# Altium schematic symbol library HEPIA_LSN_RB_V1.SchLib: 119 symbols
Pins are listed as number, name and electrical type; pins without a type are passive.

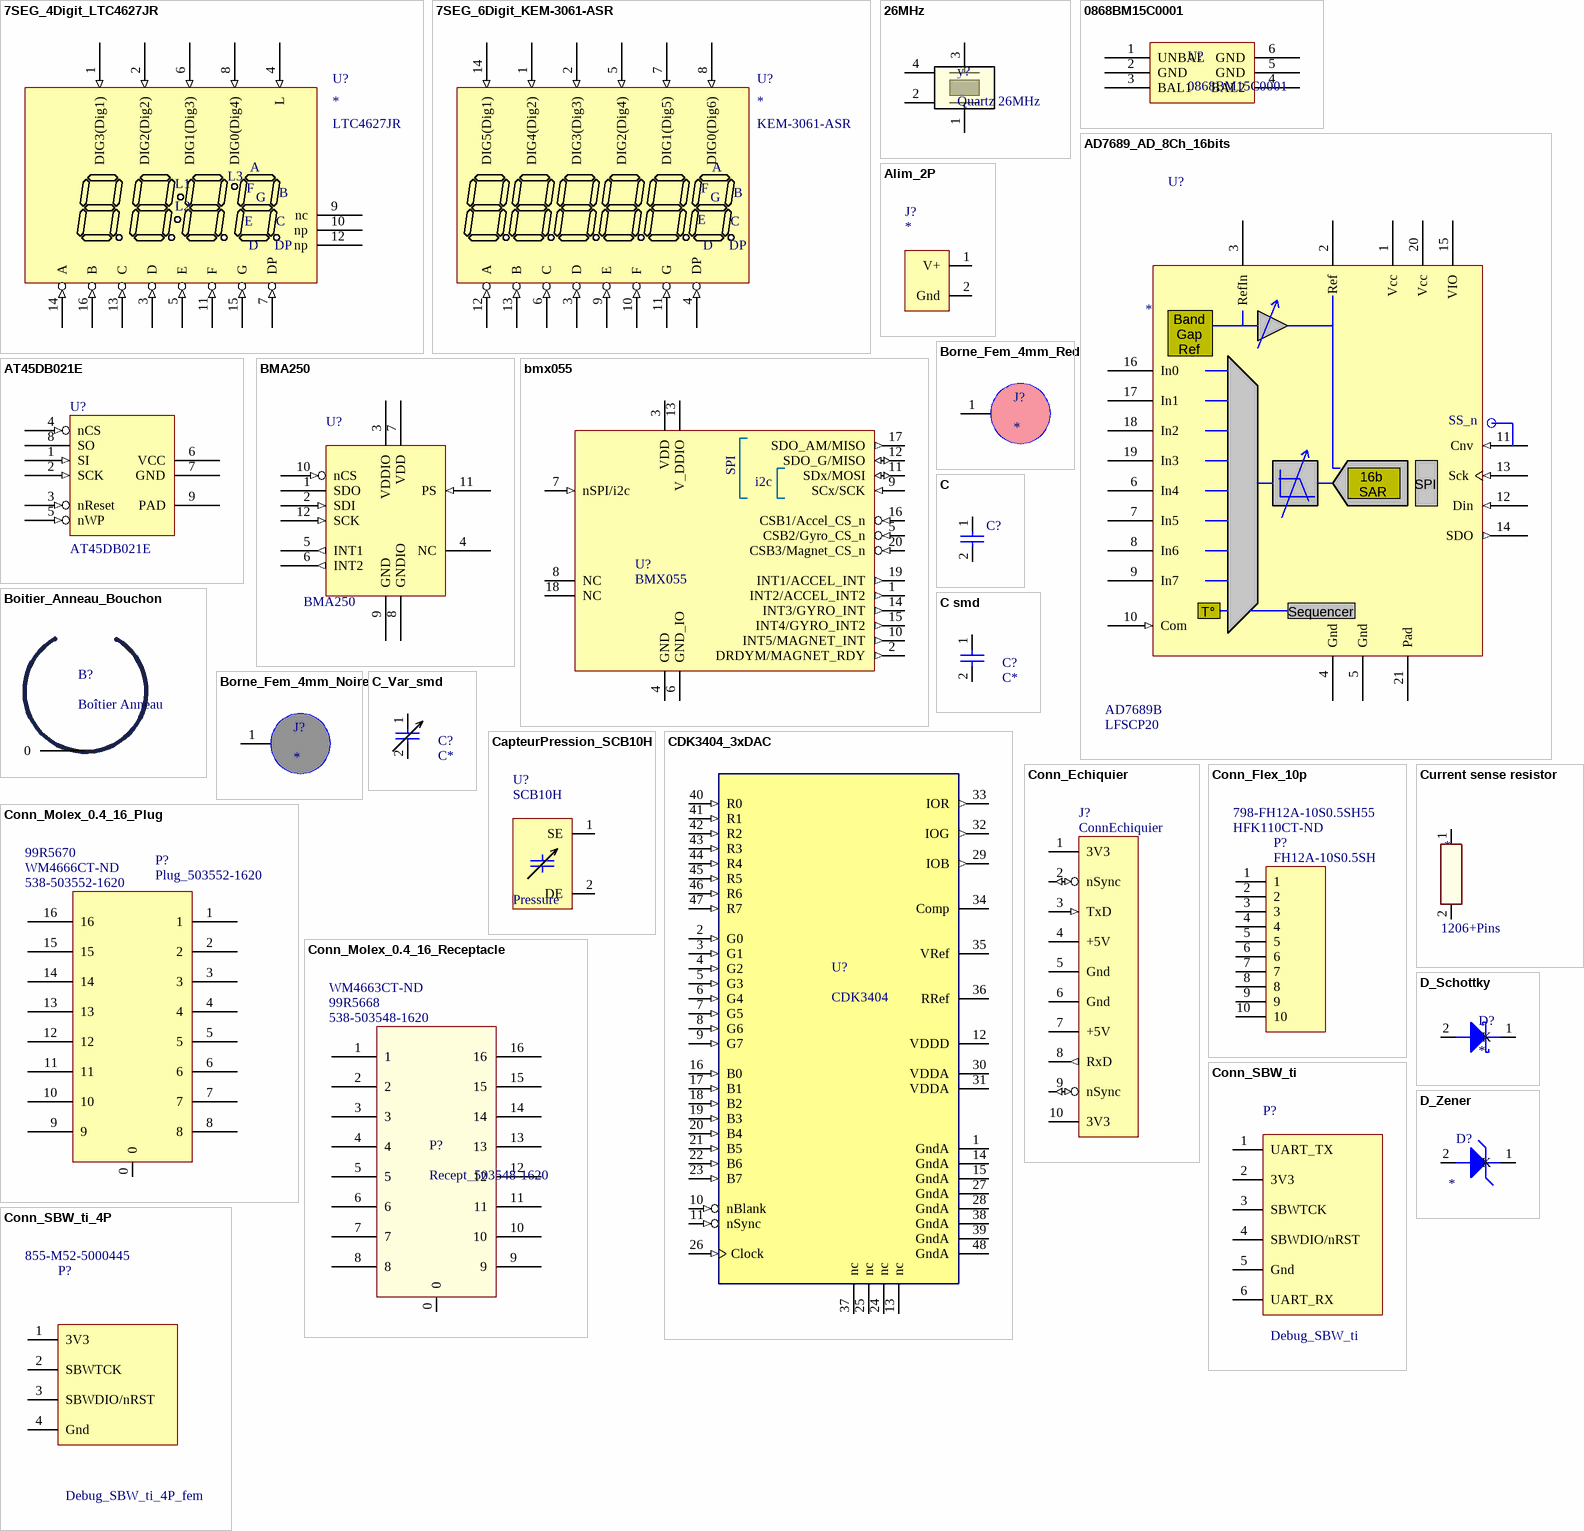
[diagram p0: symbols 7SEG_4Digit_LTC4627JR to D_Zener]

## 7SEG_4Digit_LTC4627JR
designator U?  Component: LTC4627JR
7SEG 4DIGI Annode Common
footprint 7SEG_4DIGI_10mm_LTC-4627JR (7SEgments 4 DIGI LED Display)
pins: 1 DIG3(Dig1) (in), 2 DIG2(Dig2) (in), 3 D (in), 4 L (in), 5 E (in), 6 DIG1(Dig3) (in), 7 DP (in), 8 DIG0(Dig4) (in), 9 nc, 10 np (hiz), 11 F (in), 12 np (hiz), 13 C (in), 14 A (in), 15 G (in), 16 B (in)
text: L3; L1; L2

## 7SEG_6Digit_KEM-3061-ASR
designator U?  Component: KEM-3061-ASR
footprint 7SEG_6DIGI_7.68mm
pins: 1 DIG4(Dig2) (in), 2 DIG3(Dig3) (in), 3 D (in), 4 DP (in), 5 DIG2(Dig4) (in), 6 C (in), 7 DIG1(Dig5) (in), 8 DIG0(Dig6) (in), 9 E (in), 10 F (in), 11 G (in), 12 A (in), 13 B (in), 14 DIG5(Dig1) (in)

## 26MHz
designator y?, comment Quartz 26MHz
pins: 1 IN/OUT, 2 GND (power), 3 IN/OUT, 4 GND (power)

## 0868BM15C0001
designator U?
HF ceramic solutions
pins: 1 UNBAL, 2 GND, 3 BAL1, 4 BAL2, 5 GND, 6 GND

## AD7689_AD_8Ch_16bits
designator U?  Part: AD7689B  Package: LFSCP20
AD_Conv_:8Ch_16b_SPI
footprint QFN50P400X400X100_HS-21M (QFN, 20-Leads, Body 4,00x4,00mm, Pitch 0,50mm, Thermal Pad 2,50x2,50mm, IPC Low Density)
pins: 1 Vcc, 2 Ref, 3 RefIn, 4 Gnd, 5 Gnd, 6 In4, 7 In5, 8 In6, 9 In7, 10 Com (in), 11 Cnv (in), 12 Din (in), 13 Sck (in), 14 SDO (out), 15 VIO, 16 In0, 17 In1, 18 In2, 19 In3, 20 Vcc, 21 Pad
text: Band Gap Ref /; SS_n; 16b / SAR; / SPI; T°; Sequencer

## Alim_2P
designator J?
Type: *
pins: 1 V+, 2 Gnd

## AT45DB021E
designator U?
footprint UDFN8
pins: 1 SI (in), 2 SCK (in), 3 nReset (in), 4 nCS (in), 5 nWP (in), 6 VCC (power), 7 GND (power), 8 SO, 9 PAD

## BMA250
designator U?
Acceleration Sensor SPI; Part: BMA250
footprint LGA_12
pins: 1 SDO, 2 SDI (in), 3 VDDIO (power), 4 NC, 5 INT1 (out), 6 INT2 (out), 7 VDD (power), 8 GNDIO (power), 9 GND (power), 10 nCS (in), 11 PS (in), 12 SCK (in)

## bmx055
designator U?, comment BMX055
9-axis Accel-Gyro-Magneto; Manufacturer 1: BOSCH; Manufacturer Part 1: BMX055
footprint BMX055_QFN50P450X300X100-20N (QFN, 20-Leads, Body 4.50x3.00mm, Pitch 0.50mm, IPC Medium Density)
pins: 1 INT2/ACCEL_INT2 (out), 2 DRDYM/MAGNET_RDY (out), 3 VDD (power), 4 GND (power), 5 CSB2/Gyro_CS_n (in), 6 GND_IO (power), 7 nSPI/i2c (in), 8 NC, 9 SCx/SCK (in), 10 INT5/MAGNET_INT (out), 11 SDx/MOSI (io), 12 SDO_G/MISO (io), 13 V_DDIO (power), 14 INT3/GYRO_INT (out), 15 INT4/GYRO_INT2 (out), 16 CSB1/Accel_CS_n (in), 17 SDO_AM/MISO (out), 18 NC, 19 INT1/ACCEL_INT (out), 20 CSB3/Magnet_CS_n (in)
text: SPI; i2c

## Boitier_Anneau_Bouchon
designator B?, comment Boîtier Anneau
footprint Boitier_Bouchon_di30_de40v2
pins: 0

## Borne_Fem_4mm_Noire
designator J?
Borne 4mm noire
footprint Prise_Femelle_4mm_N (Prise pour fiche 4mm noir)
pins: 1 Pad

## Borne_Fem_4mm_Red
designator J?
Borne 4mm rouge
footprint Prise_Femelle_4mm_N (Prise pour fiche 4mm noir)
footprint Prise_Femelle_4mm_R (Prise pour fiche 4mm rouge)
pins: 1 Pad

## C
designator C?
Footprint: *
footprint 0603(1608M) (Chip Resistor, 2-Leads, Body 1,6x0,8mm, IPC Low Density)
footprint 0805(2012M) (Chip Resistor, 2-Leads, Body 2,0x1,3mm, IPC Low Density)
pins: 1 "C", 2

## C smd
designator C?, comment C*
footprint 0603(1608M) (Chip Resistor, 2-Leads, Body 1,6x0,8mm, IPC Low Density)
footprint 0805(2012M) (Chip Resistor, 2-Leads, Body 2,0x1,3mm, IPC Low Density)
pins: 1 "C", 2

## C_Var_smd
designator C?, comment C*
footprint 0603(1608M) (Chip Resistor, 2-Leads, Body 1,6x0,8mm, IPC Low Density)
footprint 0805(2012M) (Chip Resistor, 2-Leads, Body 2,0x1,3mm, IPC Low Density)
footprint Murata_TZY2 (Capa Var Murata TZY2 serie)
footprint Murata_TZS2 (Capa Var Murata TZY2 serie)
pins: 1 "C", 2

## CapteurPression_SCB10H
designator U?, comment SCB10H
SCB10H_1.2bar
footprint BGA4C79P2X2_140X140X90 (BGA, 4-Leads, Body 1,40x1,40mmx0,90mm, Pitch 0,79mm)
pins: 1 SE, 2 DE
text: Pressure

## CDK3404_3xDAC
designator U?, comment CDK3404
footprint TSQFP50P900X900X120-48N (TSQFP, 48-Leads, Body 7,00x7,00mm, Pitch 0,50mm, IPC Medium Density)
pins: 1 GndA (power), 2 G0 (in), 3 G1 (in), 4 G2 (in), 5 G3 (in), 6 G4 (in), 7 G5 (in), 8 G6 (in), 9 G7 (in), 10 nBlank (in), 11 nSync (in), 12 VDDD (power), 13 nc (power), 14 GndA (power), 15 GndA (power), 16 B0 (in), 17 B1 (in), 18 B2 (in), 19 B3 (in), 20 B4 (in), 21 B5 (in), 22 B6 (in), 23 B7 (in), 24 nc (power), 25 nc (power), 26 Clock (in), 27 GndA (power), 28 GndA (power), 29 IOB (out), 30 VDDA (power), 31 VDDA (power), 32 IOG (out), 33 IOR (out), 34 Comp, 35 VRef, 36 RRef, 37 nc (power), 38 GndA (power), 39 GndA (power), 40 R0 (in), 41 R1 (in), 42 R2 (in), 43 R3 (in), 44 R4 (in), 45 R5 (in), 46 R6 (in), 47 R7 (in), 48 GndA (power)

## Conn_Echiquier
designator J?, comment ConnEchiquier
Connecteur Lien modules NESW; Value: ConnEchiquier
footprint Conn_Echiquier_ (Connecteur special echiquier 8P, 1.27mm, top-bot)
pins: 1 3V3, 2 nSync (io), 3 TxD (in), 4 +5V, 5 Gnd, 6 Gnd, 7 +5V, 8 RxD (out), 9 nSync (io), 10 3V3

## Conn_Flex_10p
designator P?, comment FH12A-10S0.5SH  Supplier Part Number 1: HFK110CT-ND  Supplier Part Number 2: 798-FH12A-10S0.5SH55
Supplier 1: Digi-Key; Supplier 2: Mouser
footprint Hirose_FH12A-10S-0.5SH(55) (Connector for Flex 1 side 10Pos 0.5mm)
footprint Hirose_FH12A-10S-0.5SH(55)-Flex (Connector for Flex 1 side 10Pos 0.5mm)
pins: 1, 2, 3, 4, 5, 6, 7, 8, 9, 10

## Conn_Molex_0.4_16_Plug
designator P?, comment Plug_503552-1620  Supplier Part Number 1: 538-503552-1620  Supplier Part Number 2: WM4666CT-ND  Supplier Part Number 3: 99R5670
Value: Plug_503552-1620; Supplier 1: Mouser; Supplier 2: Digi-Key; Supplier 3: Newark
footprint Molex_Plug_0.4_16P (Molex_SlimStack,0.4mmPitch,16Pins,2Rows,Plug,503552-1620)
pins: 0, 1, 2, 3, 4, 5, 6, 7, 8, 9, 10, 11, 12, 13, 14, 15, 16

## Conn_Molex_0.4_16_Receptacle
designator P?, comment Recept_503548-1620  Supplier Part Number 1: 538-503548-1620  Supplier Part Number 2: 99R5668  Supplier Part Number 3: WM4663CT-ND
Value: Recept_503548-1620; Supplier 1: Mouser; Supplier 2: Newark; Supplier 3: Digi-Key
footprint Molex_Recept_0.4_16P (Molex_SlimStack,0.4mmPitch,16Pins,2Rows,Recept,503548-1620)
pins: 0, 1, 2, 3, 4, 5, 6, 7, 8, 9, 10, 11, 12, 13, 14, 15, 16

## Conn_SBW_ti
designator P?, comment Debug_SBW_ti
Connecteur Debug SBW + UART, ti
footprint Conn_SBW_6pos_1.27mm
pins: 1 UART_TX "Emitter", 2 3V3 "Emitter", 3 SBWTCK "Emitter", 4 SBWDIO/nRST "Emitter", 5 Gnd "Emitter", 6 UART_RX "Emitter"

## Conn_SBW_ti_4P
designator P?, comment Debug_SBW_ti_4P_fem  Supplier Part Number 1: 855-M52-5000445
Connecteur Debug SBW ti; Supplier 1: Mouser
footprint Conn_SBW_4pos_1.27mm
pins: 1 3V3 "Emitter", 2 SBWTCK "Emitter", 3 SBWDIO/nRST "Emitter", 4 Gnd "Emitter"

## Current sense resistor
designator RM?  Package: 1206+Pins  (hidden comment: *)
Current _sense_resistor; Value: *
footprint SENSERESC3216X08M (Rsense-Chip Resistor, 2-Leads, Body 3.2x1.6mm, IPC Low Density)
footprint SENSERESC3216X08M - ROTATED (Rsense-Chip Resistor, 2-Leads, Body 3.2x1.6mm, IPC Low Density)
pins: 1, 2

## D_Schottky
designator D?
Diode_Schottky; Value: *
pins: 1 K, 2 A

## D_Zener
designator D?
Diode_Zener; Value: *
footprint 1608[0603] pol (Chip Capacitor, Body 1.6x0.8mm, IPC High Density)
pins: 1 K, 2 A

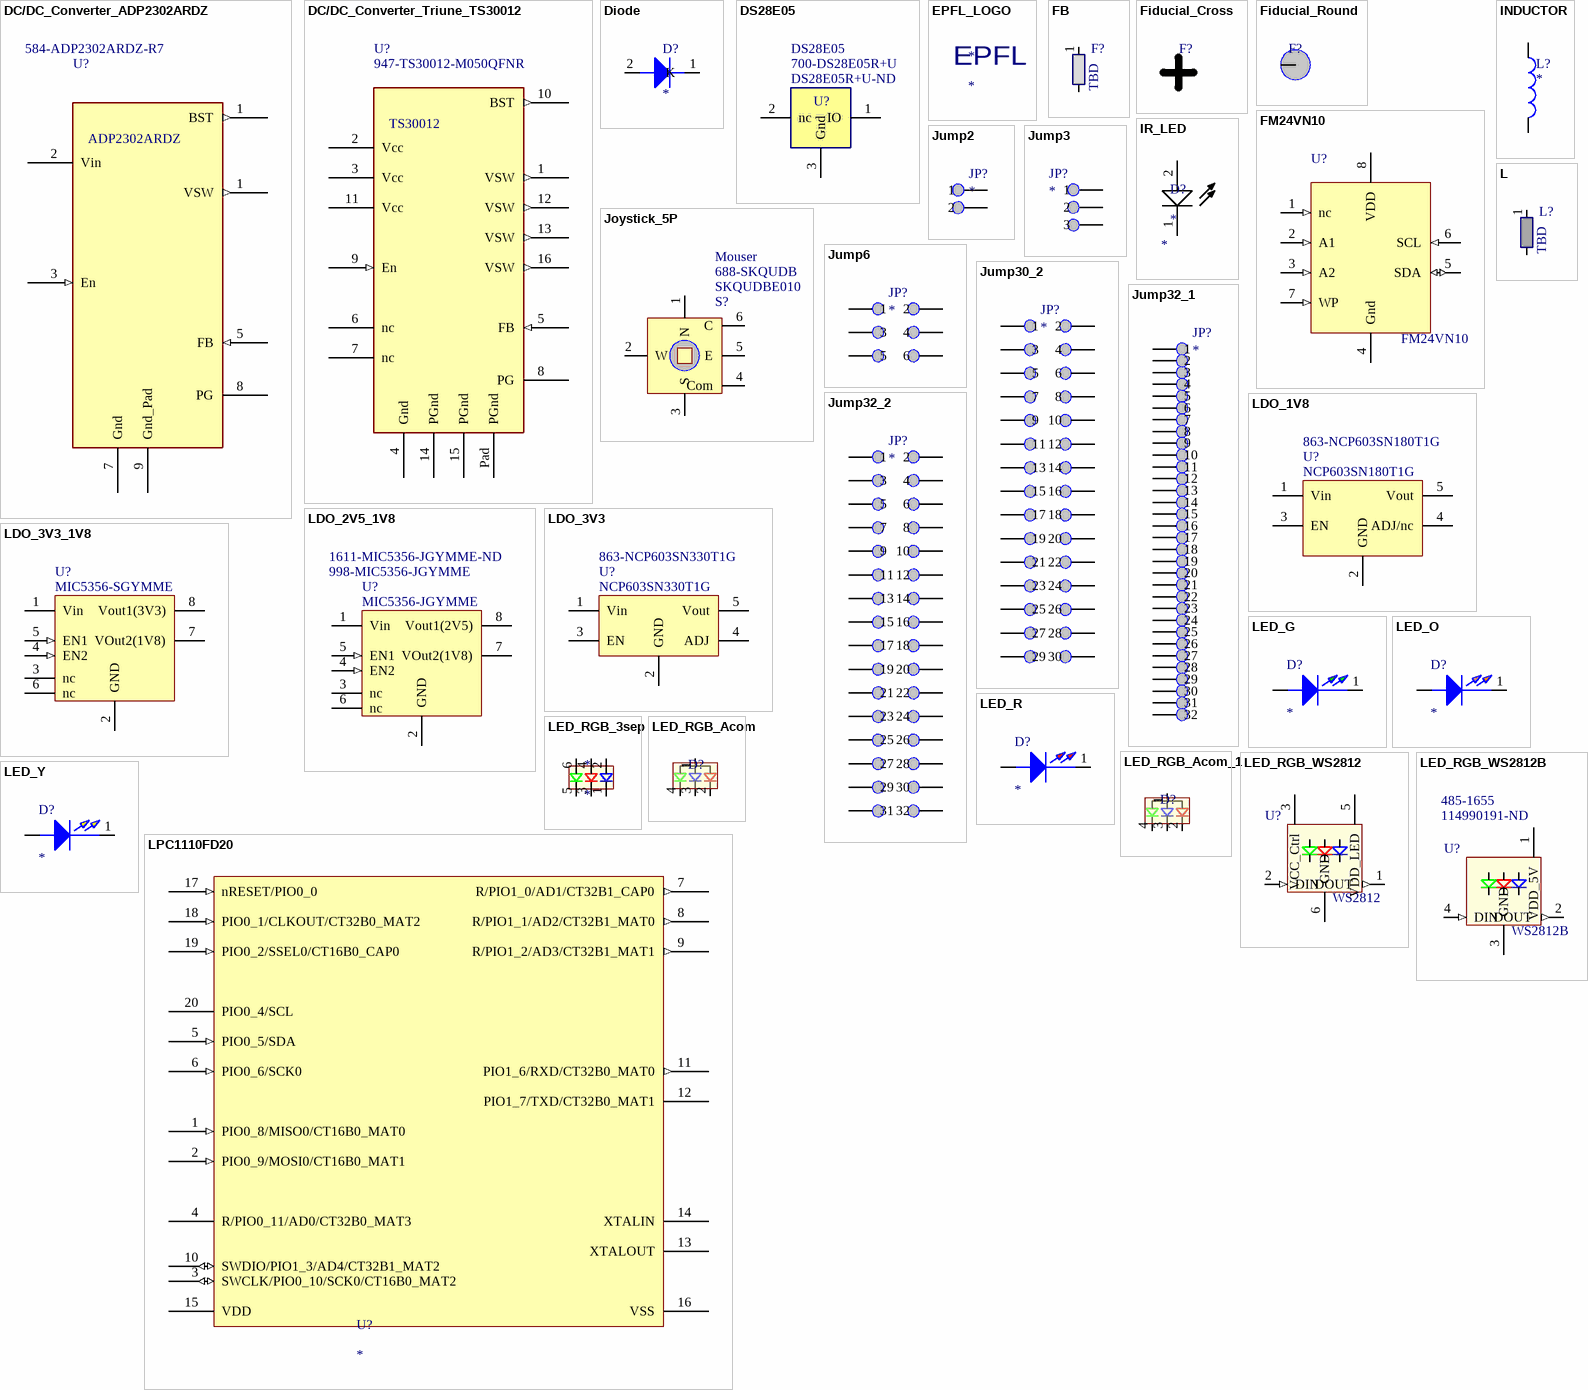
[diagram p1: symbols DC/DC_Converter_ADP2302ARDZ to LPC1110FD20]

## DC/DC_Converter_ADP2302ARDZ
designator U?, comment ADP2302ARDZ  Manufacturer: Analog Devices  Supplier Part Number 2: 584-ADP2302ARDZ-R7
DC/DC Converter Bulk; Supplier 1: Mouser; Part: ADP2302ARDZ; Supplier 2: Mouser
footprint SOIC-8-EP (8 Lead Plastic Small Outline (SN) - Narrow 150 mil (SOIC)_ExposedPad)
pins: 1 VSW (out), 1 BST (out), 2 Vin (power), 3 En (in), 5 FB (in), 7 Gnd (power), 8 PG (oc), 9 Gnd_Pad (power)

## DC/DC_Converter_Triune_TS30012
designator U?, comment TS30012  Manufacturer: Triune  Supplier Part Number 1: 947-TS30012-M050QFNR
DC/DC Converter Bulk; Supplier 1: Mouser; Part: TS30012
footprint QFN50P300X300X100_HS-17N (QFN, 16-Leads, Body 3,00x3,00mm, Pitch 0,50mm, Thermal Pad 1,68x1,68mm, IPC Medium Density)
pins: 1 VSW (out), 2 Vcc (power), 3 Vcc (power), 4 Gnd (power), 5 FB (in), 6 nc, 7 nc, 8 PG (oc), 9 En (in), 10 BST (out), 11 Vcc (power), 12 VSW (out), 13 VSW (out), 14 PGnd (power), 15 PGnd (power), 16 VSW (out), Pad PGnd (power)

## Diode
designator D?
Diode; Value: *
pins: 1 K, 2 A

## DS28E05
designator U?  Supplier Part Number 1: DS28E05R+U-ND  Supplier Part Number 2: 700-DS28E05R+U
UniqueNumber&Mem; Supplier 1: Digi-Key; Supplier 2: Mouser
footprint SOT95P237X110-3N (SOT23, 3-Leads, Body 2.90x2.37mm, Pitch 0.95mm, IPC Medium Density)
pins: 1 IO, 2 nc (power), 3 Gnd (power)

## EPFL_LOGO
designator *
footprint EPFL_Logo
text: EPFL

## FB
designator F?, comment TBD
FerriteBead; Value: TBD; Footprint: *
footprint 0603(1608M) (Chip Resistor, 2-Leads, Body 1,6x0,8mm, IPC Low Density)
footprint 0805(2012M) (Chip Resistor, 2-Leads, Body 2,0x1,3mm, IPC Low Density)
footprint 1206(3216M) (Chip Resistor, 2-Leads, Body 3,2x1,6mm, IPC Low Density)
footprint 1210(3225M) (Chip Resistor, 2-Leads, Body 3,2x2,6mm, IPC Low Density)
footprint 2010(5025M) (Chip Resistor, 2-Leads, Body 5,1x2,5mm, IPC Low Density)
footprint 2512(6332M) (Chip Resistor, 2-Leads, Body 6,4x3,2mm, IPC Low Density)
footprint 0402(1005M) (Chip Resistor, 2-Leads, Body 1,0x0,5mm, IPC Low Density)
footprint RESC1005X04L-0402 (Chip Resistor, 2-Leads, Body 1.00x0.50mm, IPC High Density)
pins: 1, 2

## Fiducial_Cross
designator F?, comment Cross  (value not drawn)
Value: Cross
footprint Fiducial_Cross_2mm (Fiducial_with_Paste)
pins: 1

## Fiducial_Round
designator F?  (value not drawn)
Value: *
footprint Fiducial_round_2mm (Fiducial 2mm round NOpastSolder)
pins: 1

## FM24VN10
designator U?
I2C_Memory_1Mbits; Value: FM24VN10
footprint SOIC-8-SN (8 Lead Plastic Small Outline (SN) - Narrow 150 mil (SOIC))
pins: 1 nc (in), 2 A1 (in), 3 A2 (in), 4 Gnd (power), 5 SDA (io), 6 SCL (in), 7 WP (in), 8 VDD (power)

## INDUCTOR
designator L?
pins: 1, 2

## IR_LED
designator D?
Value: *
pins: 1 C "Emitter", 2 A "Emitter"

## Joystick_5P
designator S?, comment SKQUDBE010  Supplier 1: Mouser  Supplier Part Number 1: 688-SKQUDB
SKQUDBE010-ALPS
footprint SKQUDBE010 (Joystick)
pins: 1 N, 2 W, 3 S, 4 Com, 5 E, 6 C

## Jump2
designator JP?
footprint Jump2
pins: 1, 2

## Jump3
designator JP?
footprint Jump3
pins: 1, 2, 3

## Jump6
designator JP?
footprint Jump6
pins: 1, 2, 3, 4, 5, 6

## Jump30_2
designator JP?
footprint Jump30
pins: 1, 2, 3, 4, 5, 6, 7, 8, 9, 10, 11, 12, 13, 14, 15, 16, 17, 18, 19, 20, 21, 22, 23, 24, 25, 26, 27, 28, 29, 30

## Jump32_1
designator JP?
footprint Jump32
pins: 1, 2, 3, 4, 5, 6, 7, 8, 9, 10, 11, 12, 13, 14, 15, 16, 17, 18, 19, 20, 21, 22, 23, 24, 25, 26, 27, 28, 29, 30, 31, 32

## Jump32_2
designator JP?
footprint Jump32
pins: 1, 2, 3, 4, 5, 6, 7, 8, 9, 10, 11, 12, 13, 14, 15, 16, 17, 18, 19, 20, 21, 22, 23, 24, 25, 26, 27, 28, 29, 30, 31, 32

## L
designator L?, comment TBD
Inductor; Value: TBD; Footprint: *
footprint 0603(1608M) (Chip Resistor, 2-Leads, Body 1,6x0,8mm, IPC Low Density)
footprint 0805(2012M) (Chip Resistor, 2-Leads, Body 2,0x1,3mm, IPC Low Density)
footprint 1206(3216M) (Chip Resistor, 2-Leads, Body 3,2x1,6mm, IPC Low Density)
footprint 1210(3225M) (Chip Resistor, 2-Leads, Body 3,2x2,6mm, IPC Low Density)
footprint 2010(5025M) (Chip Resistor, 2-Leads, Body 5,1x2,5mm, IPC Low Density)
footprint 2512(6332M) (Chip Resistor, 2-Leads, Body 6,4x3,2mm, IPC Low Density)
footprint 0402(1005M) (Chip Resistor, 2-Leads, Body 1,0x0,5mm, IPC Low Density)
footprint RESC1005X04L-0402 (Chip Resistor, 2-Leads, Body 1.00x0.50mm, IPC High Density)
pins: 1, 2

## LDO_1V8
designator U?, comment NCP603SN180T1G  Supplier Part Number 1: 863-NCP603SN180T1G
LDO_1V8; Value: NCP603SN180T1G; Supplier 1: Mouser
footprint LDO_3V3(TSOP5) (Footprint not found)
pins: 1 Vin (power), 2 GND, 3 EN, 4 ADJ/nc, 5 Vout (power)

## LDO_2V5_1V8
designator U?, comment MIC5356-JGYMME  Supplier Part Number 1: 998-MIC5356-JGYMME  Supplier Part Number 2: 1611-MIC5356-JGYMME-ND
Value: MIC5356-JGYMME; Supplier 1: Mouser; Supplier 2: Digi-Key
footprint TSOP65P490X100_HS-9N (TSOP, 8-Leads, Body 3.00x3.00mm, Pitch 0.65mm, Thermal Pad 2.36x1.73mm, IPC Medium Density)
pins: 1 Vin (power), 2 GND, 3 nc, 4 EN2 (in), 5 EN1 (in), 6 nc, 7 VOut2(1V8) (power), 8 Vout1(2V5) (power)

## LDO_3V3
designator U?, comment NCP603SN330T1G  Supplier Part Number 1: 863-NCP603SN330T1G
Value: NCP603SN330T1G; Supplier 1: Mouser
footprint LDO_3V3(TSOP5) (LDO 3V3)
pins: 1 Vin, 2 GND, 3 EN, 4 ADJ, 5 Vout

## LDO_3V3_1V8
designator U?, comment MIC5356-SGYMME
Value: MIC5356-SGYMME
footprint TSOP65P490X100_HS-9N (TSOP, 8-Leads, Body 3.00x3.00mm, Pitch 0.65mm, Thermal Pad 2.36x1.73mm, IPC Medium Density)
pins: 1 Vin (power), 2 GND, 3 nc, 4 EN2 (in), 5 EN1 (in), 6 nc, 7 VOut2(1V8) (power), 8 Vout1(3V3) (power)

## LED_G
designator D?
footprint D_0603_LED_G
pins: 1 CATHODE, 2 ANODE

## LED_O
designator D?
footprint D_0603_LED_O
pins: 1 CATHODE, 2 ANODE

## LED_R
designator D?
footprint D_0603_LED_R
pins: 1 CATHODE, 2 ANODE

## LED_RGB_3sep
designator *
pins: 1 KB, 2 AB, 3 KR, 4 AR, 5 KV, 6 AG

## LED_RGB_Acom
designator D?, comment SML-LX0404SIUPGUSB  (value not drawn)
LED RGB; Manufacturer: Lumex Opto/Components Inc; Color: Red, Green, Blue (RGB); Millicandela Rating: 30mcd Red, 40mcd Green, 20mcd Blue; Voltage - Forward (Vf) Typ: 1.95V Red, 2.85V Green, 2.73V Blue; Current - Test: 2mA; Wavelength - Peak: 632nm, 518nm, 465nm; Viewing Angle: 120°; Lens Type: Clear; Lens Style/Size: Square with Flat Top, 1mm; Lens Colour/Style: Water Clear; LED Size: 1 mm x 1 mm; Luminous Intensity: 30 mcd; Peak Wavelength: 632 nm; Product Status: New Technology; Supplier 1: Digi-Key; RoHS: RoHS Compliant; Wavelength - Dominant: -; Package / Case: 0404 (1010 Metric); Size / Dimension: 1.00mm L x 1.00mm W; Height: 0.25mm; Mounting Type: Surface Mount; Packaging: Tape & Reel (TR); Luminous Flux @ Current - Test: -; ComponentLink1URL: http://media.digikey.com/pdf/Data%20Sheets/Lumex%20PDFs/SML-LX0404SIUPGUSB.pdf; ComponentLink1Description: http://media.digikey.com/pdf/Data%20Sheets/Lumex%20PDFs/SML-LX0404SIUPGUSB.pdf; Supplier 2: Mouser; Illumination Colour: RGB; Package/Case: 0404; Lens Dimensions: 1 mm x 1mm x 0.25 mm; Maximum Operating Temperature: + 85 C; Minimum Operating Temperature: - 40 C; Product Category: Surface Mount LED Lamps; RoHS - Mouser: Y; Minimum Order Quantity: 1; Reeling: True; ComponentLink2URL: http://www.mouser.com/catalog/specsheets/SML-LX0404SIUPGUSB.pdf; ComponentLink2Description: http://www.mouser.com/catalog/specsheets/SML-LX0404SIUPGUSB.pdf; Supplier Part Number 1: 67-2125-2-ND; Manufacturer Part Number: SML-LX0404SIUPGUSB; Category: Optoelectronics; Stock 1: 10000; Pricing 1: 2000=0.354, 6000=0.333, 10000=0.326, 50000=0.319 (USD); Supplier Part Number 2: 696-LX0404SIUPGUSB; Stock 2: 738; Pricing 2: 1=0.770, 10=0.696, 100=0.640, 200=0.623, 500=0.576, 1000=0.507, 2000=0.491, 5000=0.418 (CHF)
footprint 4P_LED_RGB_1mmx1mm
pins: 1 AC, 2 KR, 3 KB, 4 KV

## LED_RGB_Acom_1
designator D?, comment SML-LX0404SIUPGUSB  (value not drawn)
LED RGB; Manufacturer: Lumex Opto/Components Inc; Color: Red, Green, Blue (RGB); Millicandela Rating: 30mcd Red, 40mcd Green, 20mcd Blue; Voltage - Forward (Vf) Typ: 1.95V Red, 2.85V Green, 2.73V Blue; Current - Test: 2mA; Wavelength - Peak: 632nm, 518nm, 465nm; Viewing Angle: 120°; Lens Type: Clear; Lens Style/Size: Square with Flat Top, 1mm; Lens Colour/Style: Water Clear; LED Size: 1 mm x 1 mm; Luminous Intensity: 30 mcd; Peak Wavelength: 632 nm; Product Status: New Technology; Supplier 1: Digi-Key; RoHS: RoHS Compliant; Wavelength - Dominant: -; Package / Case: 0404 (1010 Metric); Size / Dimension: 1.00mm L x 1.00mm W; Height: 0.25mm; Mounting Type: Surface Mount; Packaging: Tape & Reel (TR); Luminous Flux @ Current - Test: -; ComponentLink1URL: http://media.digikey.com/pdf/Data%20Sheets/Lumex%20PDFs/SML-LX0404SIUPGUSB.pdf; ComponentLink1Description: http://media.digikey.com/pdf/Data%20Sheets/Lumex%20PDFs/SML-LX0404SIUPGUSB.pdf; Supplier 2: Mouser; Illumination Colour: RGB; Package/Case: 0404; Lens Dimensions: 1 mm x 1mm x 0.25 mm; Maximum Operating Temperature: + 85 C; Minimum Operating Temperature: - 40 C; Product Category: Surface Mount LED Lamps; RoHS - Mouser: Y; Minimum Order Quantity: 1; Reeling: True; ComponentLink2URL: http://www.mouser.com/catalog/specsheets/SML-LX0404SIUPGUSB.pdf; ComponentLink2Description: http://www.mouser.com/catalog/specsheets/SML-LX0404SIUPGUSB.pdf; Supplier Part Number 1: 67-2125-2-ND; Manufacturer Part Number: SML-LX0404SIUPGUSB; Category: Optoelectronics; Stock 1: 10000; Pricing 1: 2000=0.354, 6000=0.333, 10000=0.326, 50000=0.319 (USD); Supplier Part Number 2: 696-LX0404SIUPGUSB; Stock 2: 738; Pricing 2: 1=0.770, 10=0.696, 100=0.640, 200=0.623, 500=0.576, 1000=0.507, 2000=0.491, 5000=0.418 (CHF)
footprint 4P_LED_RGB_1mmx1mm
pins: 1 AC, 2 KR, 3 KB, 4 KV

## LED_RGB_WS2812
designator U?, comment WS2812
WS2812 RGB 5050 LED; Supplier 1: alibaba; Supplier Part Number 1: http://fr.aliexpress.com/item/WS2812-100pcs-lot-5050-SMD-RGB-LED-with-built-in-WS2811-IC-Free-shipping/1594027589.html?recommendVersion=1
footprint 5050_6 (LED RGB, 6pin, WS2812 integrated PWM chip)
pins: 1 DOUT (out), 2 DIN (in), 3 VCC_Ctrl (power) "Power supply control circuit", 5 VDD_LED (power) "Power supply LED", 6 GND (power)

## LED_RGB_WS2812B
designator U?, comment WS2812B  Supplier Part Number 2: 114990191-ND  Supplier Part Number 3: 485-1655
WS2812B RGB 5050 LED; Supplier 1: alibaba; Value: WS2812B; Supplier 2: Digi-Key; Supplier 3: Mouser
footprint 5050_4 (LED RGB, 4pin, WS2812B integrated PWM chip)
pins: 1 VDD_5V (power) "Power supply LED", 2 DOUT (out), 3 GND (power), 4 DIN (in)

## LED_Y
designator D?
footprint D_0603_LED_Y
pins: 1 CATHODE, 2 ANODE

## LPC1110FD20
designator U?
footprint SOP127P1030X265-20N (SOP, 20-Leads, Body 12.80x7.50mm, Pitch 1.27mm, IPC Medium Density)
pins: 1 PIO0_8/MISO0/CT16B0_MAT0 (in), 2 PIO0_9/MOSI0/CT16B0_MAT1 (in), 3 SWCLK/PIO0_10/SCK0/CT16B0_MAT2 (io), 4 R/PIO0_11/AD0/CT32B0_MAT3, 5 PIO0_5/SDA (in), 6 PIO0_6/SCK0 (in), 7 R/PIO1_0/AD1/CT32B1_CAP0 (out), 8 R/PIO1_1/AD2/CT32B1_MAT0 (out), 9 R/PIO1_2/AD3/CT32B1_MAT1 (out), 10 SWDIO/PIO1_3/AD4/CT32B1_MAT2 (io), 11 PIO1_6/RXD/CT32B0_MAT0 (out), 12 PIO1_7/TXD/CT32B0_MAT1, 13 XTALOUT, 14 XTALIN, 15 VDD (power), 16 VSS (power), 17 nRESET/PIO0_0 (in), 18 PIO0_1/CLKOUT/CT32B0_MAT2 (in), 19 PIO0_2/SSEL0/CT16B0_CAP0 (in), 20 PIO0_4/SCL

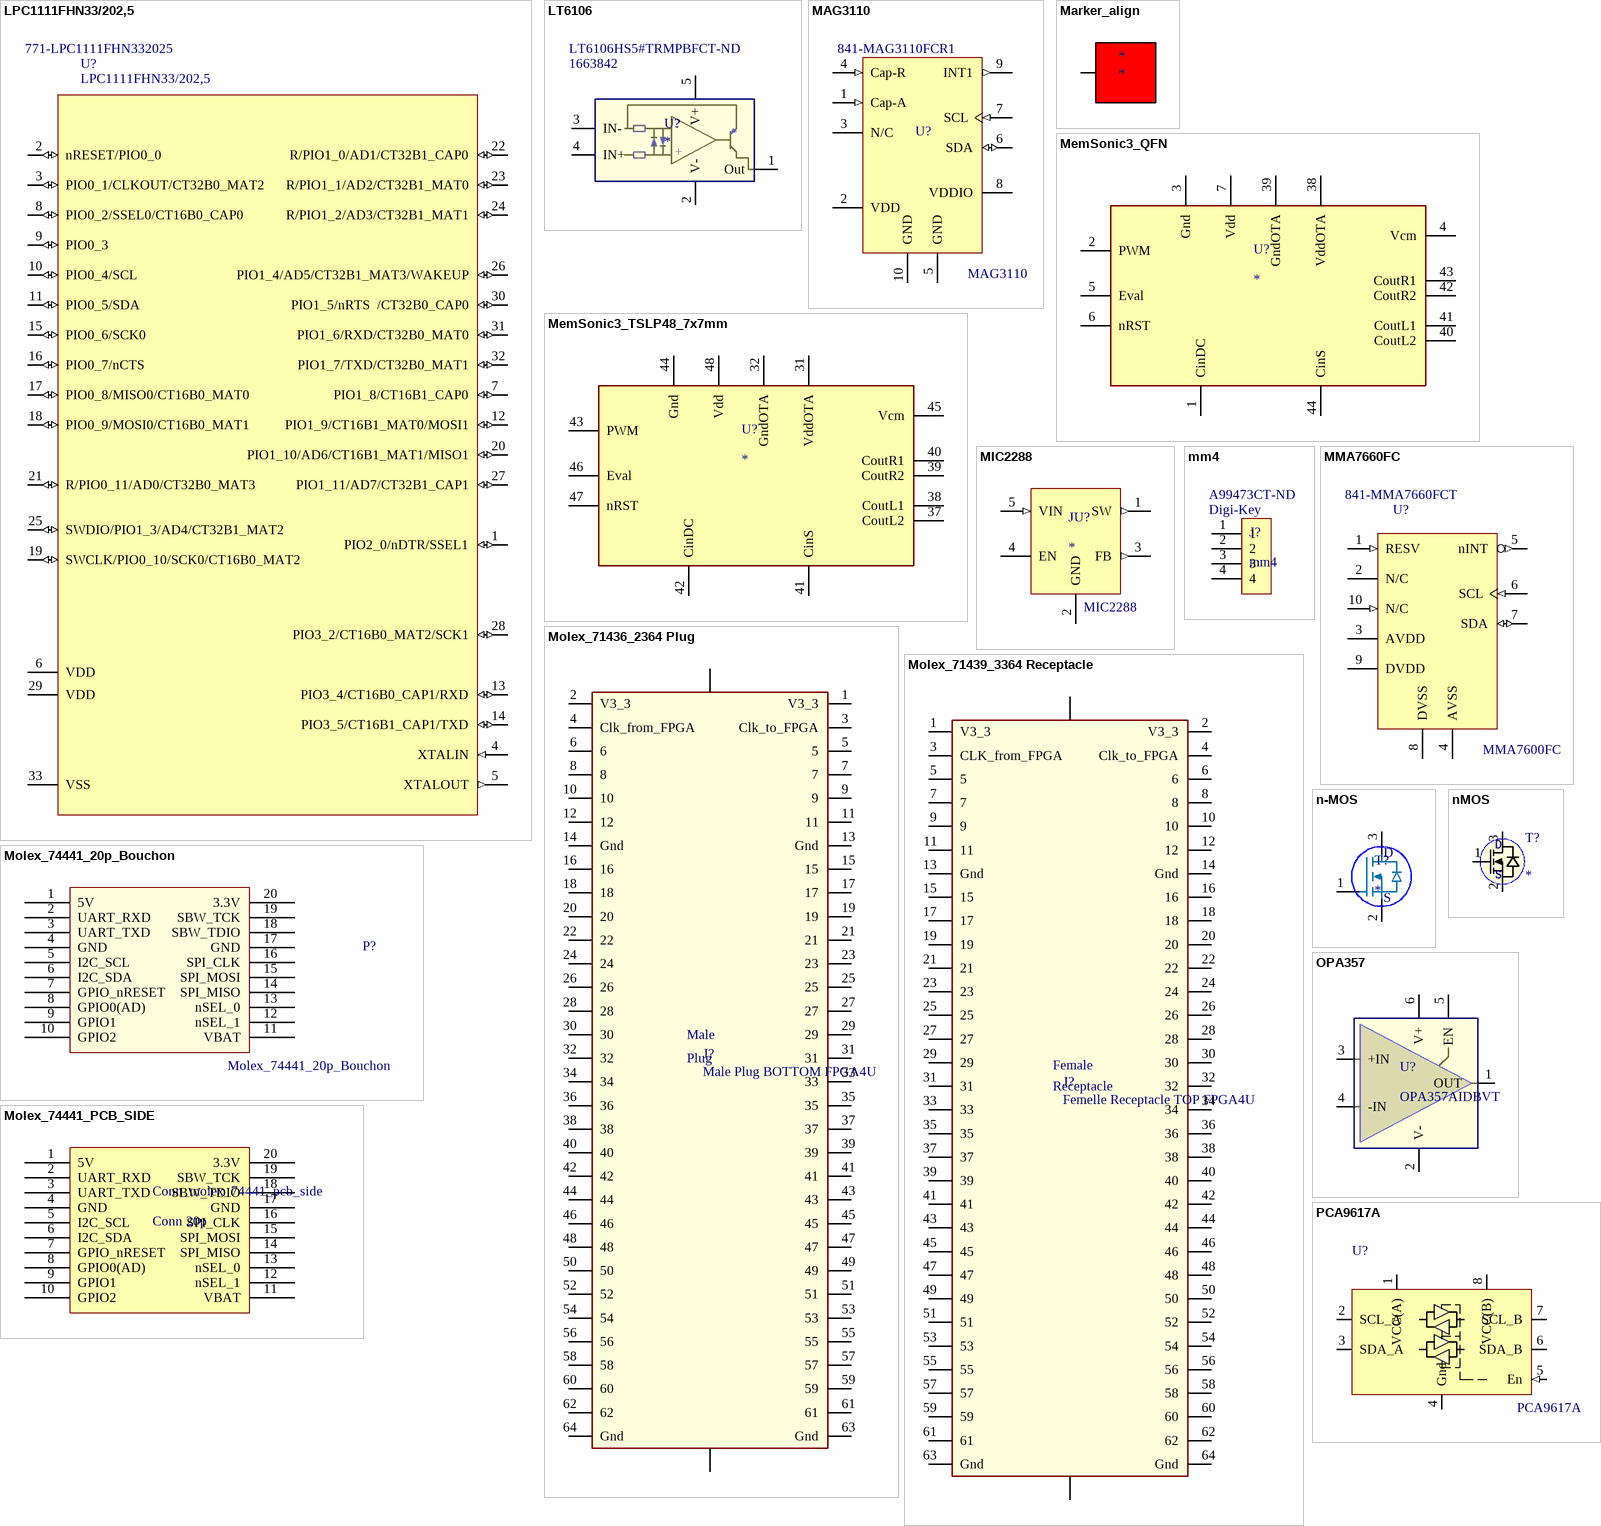
[diagram p2: symbols LPC1111FHN33/202,5 to PCA9617A]

## LPC1111FHN33/202,5
designator U?  Supplier Part Number 1: 771-LPC1111FHN332025
uC ARM Cortex M0; Value: LPC1111FHN33/202,5; Footprint: HVQFN33-0.65p; Supplier 1: Mouser
footprint QFN65P700X700X100_HS-33N (QFN, 32-Leads, Body 7,00x7,00mm, Pitch 0,65mm, Thermal Pad 4,70x4,70mm, IPC Medium Density)
pins: 1 PIO2_0/nDTR/SSEL1 (io), 2 nRESET/PIO0_0 (io), 3 PIO0_1/CLKOUT/CT32B0_MAT2 (io), 4 XTALIN (in), 5 XTALOUT (out), 6 VDD (power), 7 PIO1_8/CT16B1_CAP0 (io), 8 PIO0_2/SSEL0/CT16B0_CAP0 (io), 9 PIO0_3  (io), 10 PIO0_4/SCL (io), 11 PIO0_5/SDA (io), 12 PIO1_9/CT16B1_MAT0/MOSI1 (io), 13 PIO3_4/CT16B0_CAP1/RXD (io), 14 PIO3_5/CT16B1_CAP1/TXD (io), 15 PIO0_6/SCK0 (io), 16 PIO0_7/nCTS (io), 17 PIO0_8/MISO0/CT16B0_MAT0 (io), 18 PIO0_9/MOSI0/CT16B0_MAT1 (io), 19 SWCLK/PIO0_10/SCK0/CT16B0_MAT2 (io), 20 PIO1_10/AD6/CT16B1_MAT1/MISO1 (io), 21 R/PIO0_11/AD0/CT32B0_MAT3 (io), 22 R/PIO1_0/AD1/CT32B1_CAP0 (io), 23 R/PIO1_1/AD2/CT32B1_MAT0 (io), 24 R/PIO1_2/AD3/CT32B1_MAT1 (io), 25 SWDIO/PIO1_3/AD4/CT32B1_MAT2 (io), 26 PIO1_4/AD5/CT32B1_MAT3/WAKEUP (io), 27 PIO1_11/AD7/CT32B1_CAP1 (io), 28 PIO3_2/CT16B0_MAT2/SCK1 (io), 29 VDD (power), 30 PIO1_5/nRTS  /CT32B0_CAP0 (io), 31 PIO1_6/RXD/CT32B0_MAT0 (io), 32 PIO1_7/TXD/CT32B0_MAT1 (io), 33 VSS (power)

## LT6106
designator U?  Supplier Part Number 1: 1663842  Supplier Part Number 2: LT6106HS5#TRMPBFCT-ND
LT6106; Supplier 1: Farnell; Supplier 2: Digi-Key
footprint SOT95P280X100-5M (SOT23, 5-Leads, Body 2,9x2,8mm (max), Pitch 0,95mm, IPC Low Density)
pins: 1 Out (oc), 2 V-, 3 IN-, 4 IN+, 5 V+
text: -; +

## MAG3110
designator U?  Supplier Part Number 1: 841-MAG3110FCR1
Magnetometer 3 axis; Supplier 1: Mouser; Value: MAG3110
footprint DFN-10_2x2x09x04P (DFN-10_Pitch0.4mm)
pins: 1 Cap-A (in), 2 VDD (power), 3 N/C, 4 Cap-R (in), 5 GND (power), 6 SDA (io), 7 SCL (in), 8 VDDIO (power), 9 INT1 (out), 10 GND (power)

## Marker_align
designator *
footprint Marker_Align (For position of pcb detection by manufacturing machine)
pins: 1

## MemSonic3_QFN
designator U?
pins: 1 CinDC, 2 PWM, 3 Gnd, 4 Vcm, 5 Eval, 6 nRST, 7 Vdd, 38 VddOTA, 39 GndOTA, 40 CoutL2, 41 CoutL1, 42 CoutR2, 43 CoutR1, 44 CinS

## MemSonic3_TSLP48_7x7mm
designator U?
footprint QFN50P700X700X80_HS-49N (QFN, 48-Leads, Body 7.00x7.00mm, Pitch 0.50mm, Thermal Pad 5.30x5.30mm, IPC Medium Density)
pins: 31 VddOTA, 32 GndOTA, 37 CoutL2, 38 CoutL1, 39 CoutR2, 40 CoutR1, 41 CinS, 42 CinDC, 43 PWM, 44 Gnd, 45 Vcm, 46 Eval, 47 nRST, 48 Vdd

## MIC2288
designator JU?
pins: 1 SW (out), 2 GND, 3 FB (out), 4 EN, 5 VIN (in)

## mm4
designator J?  Supplier 1: Digi-Key  Supplier Part Number 1: A99473CT-ND
footprint MM4
pins: 1, 2, 3, 4

## MMA7660FC
designator U?, comment Supplier Part Number 1: 841-MMA7660FCT  (hidden comment: MMA7600FC)
Accelerometer 3 axis; Supplier 1: Mouser; Value: MMA7600FC
footprint DFN-10_3x3x1x05P (DFN-10_Pitch0.5mm)
pins: 1 RESV (in), 2 N/C, 3 AVDD (power), 4 AVSS (power), 5 nINT (out), 6 SCL (in), 7 SDA (io), 8 DVSS, 9 DVDD (power), 10 N/C (in)

## Molex_71436_2364 Plug
designator J?, comment Male Plug BOTTOM FPGA4U
Male_Plug_64pins_1mm
footprint MOLEX64P_1mm_Plug_Male_71436 (Connecteur Plug 64 pins 1mm MOLEX)
pins: 1 V3_3 (power), 2 V3_3 (power), 3 Clk_to_FPGA, 4 Clk_from_FPGA, 5, 6, 7, 8, 9, 10, 11, 12, 13 Gnd (power), 14 Gnd (power), 15, 16, 17, 18, 19, 20, 21, 22, 23, 24, 25, 26, 27, 28, 29, 30, 31, 32, 33, 34, 35, 36, 37, 38, 39, 40, 41, 42, 43, 44, 45, 46, 47, 48, 49, 50, 51, 52, 53, 54, 55, 56, 57, 58, 59, 60, 61, 62, 63 Gnd (power), 64 Gnd (power), 65 Hole 1, 66 Hole2
text: Male; Plug

## Molex_71439_3364 Receptacle
designator J?, comment Femelle Receptacle TOP FPGA4U
Femelle_Receptacle_64pins_1mm
footprint MOLEX64P_1mm_Receptacle_Femelle_71439 (Connecteur Receptacle 64 pins 1mm MOLEX)
pins: 1 V3_3 (power), 2 V3_3 (power), 3 CLK_from_FPGA, 4 Clk_to_FPGA, 5, 6, 7, 8, 9, 10, 11, 12, 13 Gnd (power), 14 Gnd (power), 15, 16, 17, 18, 19, 20, 21, 22, 23, 24, 25, 26, 27, 28, 29, 30, 31, 32, 33, 34, 35, 36, 37, 38, 39, 40, 41, 42, 43, 44, 45, 46, 47, 48, 49, 50, 51, 52, 53, 54, 55, 56, 57, 58, 59, 60, 61, 62, 63 Gnd (power), 64 Gnd (power), 65 Hole1, 66 Hole2
text: Female; Receptacle

## Molex_74441_20p_Bouchon
designator P?
Connector Molex 14441 20p for pcb insertion, Proj.Bouchon
footprint Molex_74441-00x1_20p (PCB connector pluggable 20p Molex)
pins: 1 5V, 2 UART_RXD, 3 UART_TXD, 4 GND, 5 I2C_SCL, 6 I2C_SDA, 7 GPIO_nRESET, 8 GPIO0(AD), 9 GPIO1, 10 GPIO2, 11 VBAT, 12 nSEL_1, 13 nSEL_0, 14 SPI_MISO, 15 SPI_MOSI, 16 SPI_CLK, 17 GND, 18 SBW_TDIO, 19 SBW_TCK, 20 3.3V

## Molex_74441_PCB_SIDE
designator Conn_molex_74441_pcb_side, comment Conn 20p
footprint Edge_74441_20p
pins: 1 5V, 2 UART_RXD, 3 UART_TXD, 4 GND, 5 I2C_SCL, 6 I2C_SDA, 7 GPIO_nRESET, 8 GPIO0(AD), 9 GPIO1, 10 GPIO2, 11 VBAT, 12 nSEL_1, 13 nSEL_0, 14 SPI_MISO, 15 SPI_MOSI, 16 SPI_CLK, 17 GND, 18 SBW_TDIO, 19 SBW_TCK, 20 3.3V

## n-MOS
designator T?
nMOSFET; Value: *
pins: 1 G "Gate", 2 S "Source", 3 D "Drain"

## nMOS
designator T?
Supplier 1: Mouser; Supplier Part Number 1: 667-FK3303010L; Supplier 2: Digi-Key; Supplier Part Number 2: FK3303010LCT-ND
footprint SOT-23
footprint SOT95P238X112-3L (SOT23, 3-Leads, Body 3,0x2,7mm (max), Pitch 0,95mm, IPC High Density)
footprint SSSMini3-F2-B (SSSMini3-F2-B, 3-Leads, Body 1.25x.85mm (max), Pitch 0,80mm, IPC High Density)
pins: 1 G, 2 S, 3 D

## OPA357
designator U?, comment OPA357AIDBVT
Amplificateur Opérationnel TI; URL: http://focus.ti.com/lit/ds/symlink/opa357.pdf; Distributor: http://ch.mouser.com/ProductDetail/Texas-Instruments/OPA357AIDBVT/?qs=sGAEpiMZZMsko7UDAsUSIch3u%2fkN0pq9mLj1xdX%252b9Ic%3d
footprint SOT95P280X145-6M (SOT23, 6-Leads, Body 3,0x3,0mm (max), Pitch 0,95mm, IPC Low Density)
pins: 1 OUT, 2 V-, 3 +IN, 4 -IN, 5 EN, 6 V+

## PCA9617A
designator U?
i2c_level_translator
pins: 1 VCC(A) (power), 2 SCL_A (oc), 3 SDA_A (oc), 4 Gnd (power), 5 En (in), 6 SDA_B (oc), 7 SCL_B (oc), 8 VCC(B) (power)

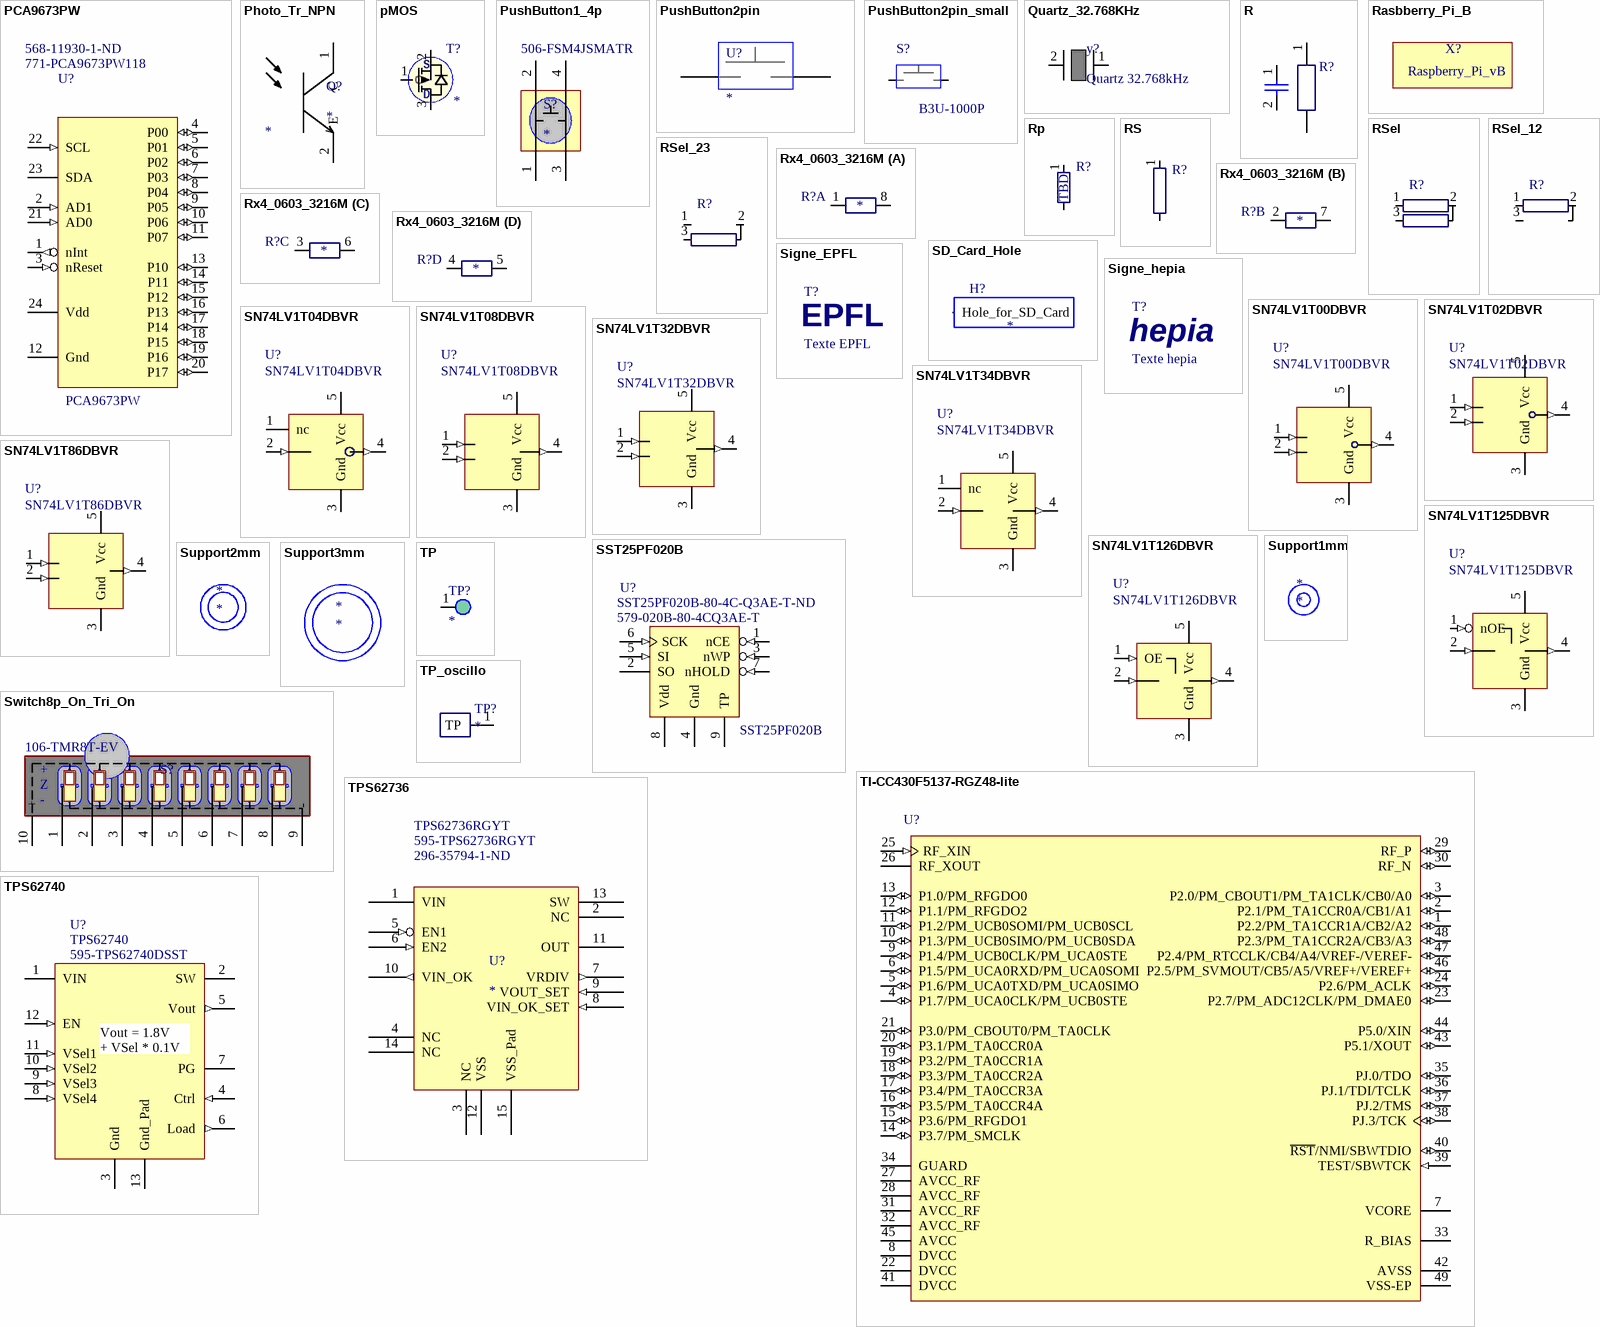
[diagram p3: symbols PCA9673PW to TPS62740]

## PCA9673PW
designator U?  Supplier Part Number 1: 771-PCA9673PW118  Supplier Part Number 2: 568-11930-1-ND
i2c_IO_Expander; Value: PCA9673PW; Supplier 1: Mouser; Supplier 2: Digi-Key
pins: 1 nInt (out), 2 AD1 (in), 3 nReset (in), 4 P00 (io), 5 P01 (io), 6 P02 (io), 7 P03 (io), 8 P04 (io), 9 P05 (io), 10 P06 (io), 11 P07 (io), 12 Gnd (power), 13 P10 (io), 14 P11 (io), 15 P12 (io), 16 P13 (io), 17 P14 (io), 18 P15 (io), 19 P16 (io), 20 P17 (io), 21 AD0 (in), 22 SCL (in), 23 SDA (oc), 24 Vdd (power)

## Photo_Tr_NPN
designator Q?
Photo Transistor; Value: *
pins: 1 C "Collector", 2 E "Emitter"

## pMOS
designator T?
Supplier 1: Digi-Key; Supplier Part Number 1: FJ3303010L-ND; Supplier 2: Mouser; Supplier Part Number 2: 667-FJ3303010L
footprint SOT-23
footprint SOT95P238X112-3L (SOT23, 3-Leads, Body 3,0x2,7mm (max), Pitch 0,95mm, IPC High Density)
footprint SSSMini3-F2-B (SSSMini3-F2-B, 3-Leads, Body 1.25x.85mm (max), Pitch 0,80mm, IPC High Density)
pins: 1 G, 2 S, 3 D

## PushButton1_4p
designator S?  Supplier Part Number 1: 506-FSM4JSMATR
Supplier 1: Mouser
footprint FSM4JSMA (Push Button FSM4JSMA)
pins: 1, 2, 3, 4

## PushButton2pin
designator U?
footprint PUSHBUTTON2PIN
pins: A1, B1

## PushButton2pin_small
designator S?, comment B3U-1000P
Push Button small; Manufacturer 1: Omron Electronics; Manufacturer Part 1: B3U-1000P
footprint PUSHBUTTON2PIN
pins: A1, B1

## Quartz_32.768KHz
designator y?, comment Quartz 32.768kHz
footprint Quartz-ABS06L
pins: 1, 2

## R
designator R?
Resistor
footprint 0603(1608M) (Chip Resistor, 2-Leads, Body 1,6x0,8mm, IPC Low Density)
footprint 0805(2012M) (Chip Resistor, 2-Leads, Body 2,0x1,3mm, IPC Low Density)
footprint 1206(3216M) (Chip Resistor, 2-Leads, Body 3,2x1,6mm, IPC Low Density)
footprint 1210(3225M) (Chip Resistor, 2-Leads, Body 3,2x2,6mm, IPC Low Density)
footprint 2010(5025M) (Chip Resistor, 2-Leads, Body 5,1x2,5mm, IPC Low Density)
footprint 2512(6332M) (Chip Resistor, 2-Leads, Body 6,4x3,2mm, IPC Low Density)
footprint 0402(1005M) (Chip Resistor, 2-Leads, Body 1,0x0,5mm, IPC Low Density)
footprint RESC1005X04L-0402 (Chip Resistor, 2-Leads, Body 1.00x0.50mm, IPC High Density)
pins: 1, 1 "C", 2, 2

## Rasbberry_Pi_B
designator X?, comment Raspberry_Pi_vB
Carte_Raspberry_Pi_versB_step
footprint Raspberry_Pi_vB (Model_Step_Raspberry_Pi)

## Rp
designator R?, comment TBD
R; Value: TBD; Footprint: *
footprint 0603(1608M) (Chip Resistor, 2-Leads, Body 1,6x0,8mm, IPC Low Density)
footprint 0805(2012M) (Chip Resistor, 2-Leads, Body 2,0x1,3mm, IPC Low Density)
footprint 1206(3216M) (Chip Resistor, 2-Leads, Body 3,2x1,6mm, IPC Low Density)
footprint 1210(3225M) (Chip Resistor, 2-Leads, Body 3,2x2,6mm, IPC Low Density)
footprint 2010(5025M) (Chip Resistor, 2-Leads, Body 5,1x2,5mm, IPC Low Density)
footprint 2512(6332M) (Chip Resistor, 2-Leads, Body 6,4x3,2mm, IPC Low Density)
footprint 0402(1005M) (Chip Resistor, 2-Leads, Body 1,0x0,5mm, IPC Low Density)
footprint RESC1005X04L-0402 (Chip Resistor, 2-Leads, Body 1.00x0.50mm, IPC High Density)
pins: 1, 2

## RS
designator R?
Resistor; Footprint: *
footprint 0603(1608M) (Chip Resistor, 2-Leads, Body 1,6x0,8mm, IPC Low Density)
footprint 0805(2012M) (Chip Resistor, 2-Leads, Body 2,0x1,3mm, IPC Low Density)
footprint 1206(3216M) (Chip Resistor, 2-Leads, Body 3,2x1,6mm, IPC Low Density)
footprint 1210(3225M) (Chip Resistor, 2-Leads, Body 3,2x2,6mm, IPC Low Density)
footprint 2010(5025M) (Chip Resistor, 2-Leads, Body 5,1x2,5mm, IPC Low Density)
footprint 2512(6332M) (Chip Resistor, 2-Leads, Body 6,4x3,2mm, IPC Low Density)
footprint 0402(1005M) (Chip Resistor, 2-Leads, Body 1,0x0,5mm, IPC Low Density)
footprint RESC1005X04L-0402 (Chip Resistor, 2-Leads, Body 1.00x0.50mm, IPC High Density)
pins: 1, 2

## RSel
designator R?
ResistorSelect; Footprint: *
footprint RESC1005X04L-0402-double (Chip Resistor, 2-Leads, Body 1.00x0.50mm, IPC High Density_only1mounted)
pins: 1, 2, 3

## RSel_12
designator R?
ResistorSelect; Footprint: *
footprint RESC1005X04L-0402-double-12 (Chip Resistor, 2-Leads, Body 1.00x0.50mm, IPC High Density_only1mounted)
pins: 1, 2, 3

## RSel_23
designator R?
ResistorSelect; Footprint: *
footprint RESC1005X04L-0402-double (Chip Resistor, 2-Leads, Body 1.00x0.50mm, IPC High Density_only1mounted)
footprint RESC1005X04L-0402-double-23 (Chip Resistor, 2-Leads, Body 1.00x0.50mm, IPC High Density_only1mounted)
pins: 1, 2, 3

## Rx4_0603_3216M
designator R?
ResNet x4
footprint ResNetx4_0603_3216M
part A pins: 1, 8
part B pins: 2, 7
part C pins: 3, 6
part D pins: 4, 5

## SD_Card_Hole
designator H?
Hole for SD card insertion
footprint SD_Card_hole (Openning_in_pcb_backplane_for_SD_Card)
pins: 0 Hole_for_SD_Card

## Signe_EPFL
designator T?, comment Texte EPFL
text: EPFL

## Signe_hepia
designator T?, comment Texte hepia
text: hepia

## SN74LV1T00DBVR
designator U?
SingleGate_NAND_LevelAdapter; Part: SN74LV1T00DBVR
footprint SOT95P280X100-5M (SOT23, 5-Leads, Body 2,9x2,8mm (max), Pitch 0,95mm, IPC Low Density)
pins: 1 i1 (in) "Buffer", 2 i2 (in) "Buffer", 3 Gnd (power) "Buffer", 4 Y (out) "Buffer", 5 Vcc (power) "Buffer"

## SN74LV1T02DBVR
designator U?
SingleGate_NOR_LevelAdapter; Part: SN74LV1T02DBVR
footprint SOT95P280X100-5M (SOT23, 5-Leads, Body 2,9x2,8mm (max), Pitch 0,95mm, IPC Low Density)
pins: 1 i1 (in) "Buffer", 2 i2 (in) "Buffer", 3 Gnd (power) "Buffer", 4 Y (out) "Buffer", 5 Vcc (power) "Buffer"

## SN74LV1T04DBVR
designator U?
SingleGate_Inverter_LevelAdapter; Part: SN74LV1T04DBVR
footprint SOT95P280X100-5M (SOT23, 5-Leads, Body 2,9x2,8mm (max), Pitch 0,95mm, IPC Low Density)
pins: 1 nc "Buffer", 2 (in) "Buffer", 3 Gnd (power) "Buffer", 4 Y (out) "Buffer", 5 Vcc (power) "Buffer"

## SN74LV1T08DBVR
designator U?
SingleGate_AND_LevelAdapter; Part: SN74LV1T08DBVR
footprint SOT95P280X100-5M (SOT23, 5-Leads, Body 2,9x2,8mm (max), Pitch 0,95mm, IPC Low Density)
pins: 1 i1 (in) "Buffer", 2 i2 (in) "Buffer", 3 Gnd (power) "Buffer", 4 Y (out) "Buffer", 5 Vcc (power) "Buffer"

## SN74LV1T32DBVR
designator U?
SingleGate_OR_LevelAdapter; Part: SN74LV1T32DBVR
footprint SOT95P280X100-5M (SOT23, 5-Leads, Body 2,9x2,8mm (max), Pitch 0,95mm, IPC Low Density)
pins: 1 i1 (in) "Buffer", 2 i2 (in) "Buffer", 3 Gnd (power) "Buffer", 4 Y (out) "Buffer", 5 Vcc (power) "Buffer"

## SN74LV1T34DBVR
designator U?
SingleGate_Buffer_LevelAdapter; Part: SN74LV1T34DBVR
footprint SOT95P280X100-5M (SOT23, 5-Leads, Body 2,9x2,8mm (max), Pitch 0,95mm, IPC Low Density)
pins: 1 nc "Buffer", 2 (in) "Buffer", 3 Gnd (power) "Buffer", 4 Y (out) "Buffer", 5 Vcc (power) "Buffer"

## SN74LV1T86DBVR
designator U?
SingleGate_XOR_LevelAdapter; Part: SN74LV1T86DBVR
footprint SOT95P280X100-5M (SOT23, 5-Leads, Body 2,9x2,8mm (max), Pitch 0,95mm, IPC Low Density)
pins: 1 i1 (in) "Buffer", 2 i2 (in) "Buffer", 3 Gnd (power) "Buffer", 4 Y (out) "Buffer", 5 Vcc (power) "Buffer"

## SN74LV1T125DBVR
designator U?
SingleGate_Buffer_TS_nOE_LevelAdapter; Part: SN74LV1T125DBVR
footprint SOT95P280X100-5M (SOT23, 5-Leads, Body 2,9x2,8mm (max), Pitch 0,95mm, IPC Low Density)
pins: 1 nOE (in) "Buffer", 2 (in) "Buffer", 3 Gnd (power) "Buffer", 4 Y (out) "Buffer", 5 Vcc (power) "Buffer"

## SN74LV1T126DBVR
designator U?
SingleGate_Buffer_TS_OE_LevelAdapter; Part: SN74LV1T126DBVR
footprint SOT95P280X100-5M (SOT23, 5-Leads, Body 2,9x2,8mm (max), Pitch 0,95mm, IPC Low Density)
pins: 1 OE (in) "Buffer", 2 (in) "Buffer", 3 Gnd (power) "Buffer", 4 Y (out) "Buffer", 5 Vcc (power) "Buffer"

## SST25PF020B
designator U?  Supplier Part Number 1: 579-020B-80-4CQ3AE-T  Supplier Part Number 2: SST25PF020B-80-4C-Q3AE-T-ND
Flash_2Mb_SPI; Supplier 1: Mouser; Supplier 2: Digi-Key
footprint USON-8 (QFN, 8-Leads, Body 3.00x2.00mm, Pitch 0.50mm, Thermal Pad 0.20x1.60mm, IPC Medium Density)
pins: 1 nCE (in) "The device is enabled by a high to low transition on CE#. CE# must remain low for the duration of any command sequence.", 2 SO (hiz) "To transfer data serially out of the device. Data is shifted out on the falling edge of the serial clock.", 3 nWP (in) "The Write Protect (WP#) pin is used to enable/disable BPL bit in the status register.", 4 Gnd (power), 5 SI (in) "To transfer commands, addresses, or data serially into the device. Inputs are latched on the rising edge of the serial clock.", 6 SCK (in) "To provide the timing of the serial interface. Commands, addresses, or input data are latched on the rising edge of the clock input, while output data is shifted out on the falling edge of the clock input.", 7 nHOLD (in) "To temporarily stop serial communication with SPI flash memory without resetting the device.", 8 Vdd (power) "To provide power supply (3.0-3.6V).", 9 TP

## Support1mm
designator *
footprint Support1mm

## Support2mm
designator *
footprint Support2mm

## Support3mm
designator *
footprint Support3mm

## Switch8p_On_Tri_On
designator S?  Supplier Part Number 1: 106-TMR8T-EV  (hidden comment: *)
Supplier 1: Mouser
footprint SOP254P990X265-16N (SOP, 8+2-Leads, Body 21,5x7,0mm (max), Pitch 2,54mm, IPC Medium Density, Switch 8)
pins: 1, 2, 3, 4, 5, 6, 7, 8, 9 -, 10 +
text: Z

## TI-CC430F5137-RGZ48-lite
designator U?
pins: 1 P2.2/PM_TA1CCR1A/CB2/A2 (io), 2 P2.1/PM_TA1CCR0A/CB1/A1 (io), 3 P2.0/PM_CBOUT1/PM_TA1CLK/CB0/A0 (io), 4 P1.7/PM_UCA0CLK/PM_UCB0STE (io), 5 P1.6/PM_UCA0TXD/PM_UCA0SIMO (io), 6 P1.5/PM_UCA0RXD/PM_UCA0SOMI (io), 7 VCORE "Regulated core power supply", 8 DVCC (power) "Digital power supply", 9 P1.4/PM_UCB0CLK/PM_UCA0STE (io), 10 P1.3/PM_UCB0SIMO/PM_UCB0SDA (io), 11 P1.2/PM_UCB0SOMI/PM_UCB0SCL (io), 12 P1.1/PM_RFGDO2 (io), 13 P1.0/PM_RFGDO0 (io), 14 P3.7/PM_SMCLK (io), 15 P3.6/PM_RFGDO1 (io), 16 P3.5/PM_TA0CCR4A (io), 17 P3.4/PM_TA0CCR3A (io), 18 P3.3/PM_TA0CCR2A (io), 19 P3.2/PM_TA0CCR1A (io), 20 P3.1/PM_TA0CCR0A (io), 21 P3.0/PM_CBOUT0/PM_TA0CLK (io), 22 DVCC (power) "Digital power supply", 23 P2.7/PM_ADC12CLK/PM_DMAE0 (io), 24 P2.6/PM_ACLK (io), 25 RF_XIN (in) "Input terminal for RF crystal oscillator, or external clock input", 26 RF_XOUT "Output terminal for RF crystal oscillator", 27 AVCC_RF (power) "Radio analog power supply", 28 AVCC_RF (power) "Radio analog power supply", 29 RF_P (io) "Positive RF input to LNA in receive mode Positive RF output from PA in transmit mode", 30 RF_N (io) "Negative RF input to LNA in receive mode Negative RF output from PA in transmit mode", 31 AVCC_RF (power) "Radio analog power supply", 32 AVCC_RF (power) "Radio analog power supply", 33 R_BIAS "External bias resistor for radio reference current", 34 GUARD (power) "Power supply connection for digital noise isolation", 35 PJ.0/TDO (io), 36 PJ.1/TDI/TCLK (io), 37 PJ.2/TMS (io), 38 PJ.3/TCK (io), 39 TEST/SBWTCK (in), 40 ~{RST}/NMI/SBWTDIO (io), 41 DVCC (power) "Digital power supply", 42 AVSS (power) "Analog ground supply for ADC12", 43 P5.1/XOUT (io), 44 P5.0/XIN (io), 45 AVCC (power) "Analog power supply", 46 P2.5/PM_SVMOUT/CB5/A5/VREF+/VEREF+ (io), 47 P2.4/PM_RTCCLK/CB4/A4/VREF-/VEREF- (io), 48 P2.3/PM_TA1CCR2A/CB3/A3 (io), 49 VSS-EP "Ground supply The exposed die attach pad must be connected to a solid ground plane as this is the ground connection for the chip."

## TP
designator TP?
footprint TP_0.5mm (Test Point d0.5mm hole)
footprint TP_0.75mm (Test Point d0.75mm hole)
footprint TP_1mm (Test Point d1mm hole)
footprint TP_1.5mm (Test Point d1.5mm hole)
pins: 1 TP

## TP_oscillo
designator TP?
footprint Jump1
footprint TP1
pins: 1 TP

## TPS62736
designator U?  Supplier Part Number 1: 296-35794-1-ND  Supplier Part Number 2: 595-TPS62736RGYT  Supplier Part Number 3: TPS62736RGYT
TPS62736; Supplier 1: Digi-Key; Supplier 2: Mouser; Supplier 3: Arrow
footprint PVQFN-N14 (QFN, 16-Leads, Body 4x4mm, Pitch 0.5mm, NSC Recommended)
pins: 1 VIN (power), 2 NC, 3 NC, 4 NC, 5 EN1 (in), 6 EN2 (in), 7 VRDIV (out), 8 VIN_OK_SET (in), 9 VOUT_SET (in), 10 VIN_OK (out), 11 OUT (power), 12 VSS (power), 13 SW (power), 14 NC, 15 VSS_Pad (power)

## TPS62740
designator U?  Supplier Part Number 1: 595-TPS62740DSST
Supplier 1: Mouser; Value: TPS62740
footprint QFN50P200X300X80_HS-13L (QFN, 12-Leads, Body 2,00x3,00mm, Pitch 0,50mm, Thermal Pad 0,90x2,00mm, IPC High Density)
pins: 1 VIN (power), 2 SW (power), 3 Gnd (power), 4 Ctrl (in), 5 Vout (out), 6 Load (out), 7 PG (oc), 8 VSel4 (in) "Buffer", 9 VSel3 (in) "Buffer", 10 VSel2 (in) "Buffer", 11 VSel1 (in), 12 EN (in), 13 Gnd_Pad (power)
text: Vout = 1.8V / + VSel * 0.1V

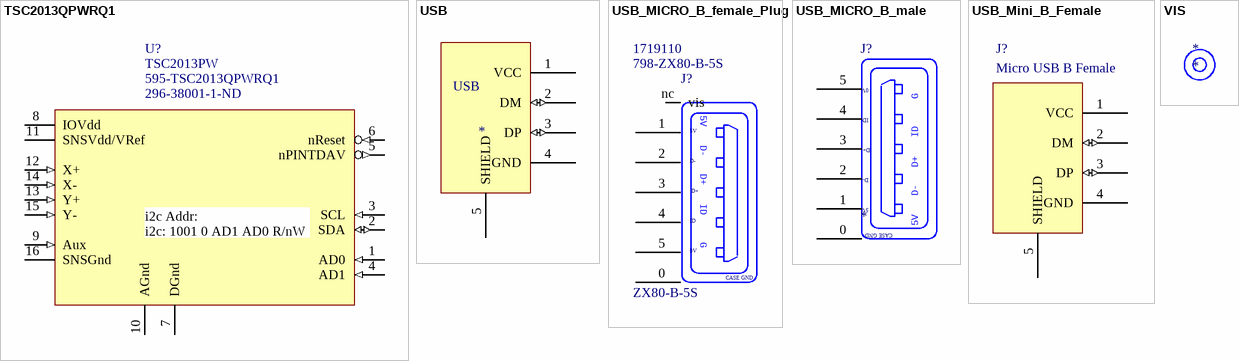
[diagram p4: symbols TSC2013QPWRQ1 to VIS]

## TSC2013QPWRQ1
designator U?, comment TSC2013PW  Supplier Part Number 1: 595-TSC2013QPWRQ1  Supplier Part Number 2: 296-38001-1-ND
TSC2013QPWRQ1; Supplier 1: Mouser; Supplier 2: Digi-Key
pins: 1 AD0 (in) "Emitter", 2 SDA (io) "Emitter", 3 SCL (in) "Emitter", 4 AD1 (in) "Emitter", 5 nPINTDAV (out) "Emitter", 6 nReset (in) "Emitter", 7 DGnd (power) "Emitter", 8 IOVdd (power) "Emitter", 9 Aux (in) "Emitter", 10 AGnd (power) "Emitter", 11 SNSVdd/VRef (power) "Emitter", 12 X+ (in) "Emitter", 13 Y+ (in) "Emitter", 14 X- (in) "Emitter", 15 Y- (in) "Emitter", 16 SNSGnd (power) "Emitter"
text: i2c Addr: / i2c: 1001 0 AD1 AD0 R/nW /

## USB
designator USB
USB
pins: 1 VCC (power), 2 DM (io), 3 DP (io), 4 GND (power), 5 SHIELD

## USB_MICRO_B_female_Plug
designator J?, comment Supplier Part Number 1: 798-ZX80-B-5S  Supplier Part Number 2: 1719110  (hidden comment: ZX80-B-5S)
USB_Micro_Plug; Supplier 1: Mouser; Supplier 2: Farnell; Value: ZX80-B-5S
footprint Micro_USB_Plug_ZX80_B_5S_nc (Connector_USB_Micro_Plug_SMD_Vertical)
pins: 0 GND, 1 5V, 2 D-, 3 D+, 4 ID, 5 0V, nc vis
text: G; CASE GND

## USB_MICRO_B_male
designator J?
footprint USBMICRO (798-zx62r-b-5p)
pins: 0 GND, 1 5V, 2 D-, 3 D+, 4 ID, 5 0V
text: G; CASE GND

## USB_Mini_B_Female
designator J?, comment Micro USB B Female
Component: Micro USB B Female
pins: 1 VCC (power), 2 DM (io), 3 DP (io), 4 GND (power), 5 SHIELD

## VIS
designator *
footprint Support1mm
footprint Support2mm
footprint Support3mm
footprint Support1_5mm
footprint Support2_5mm